# EAGLE library part A-PRO-MINI_FTDI (library digital-toy)
Wattuino Pro Mini with FTDI connector (Arduino Pro Mini Clone)
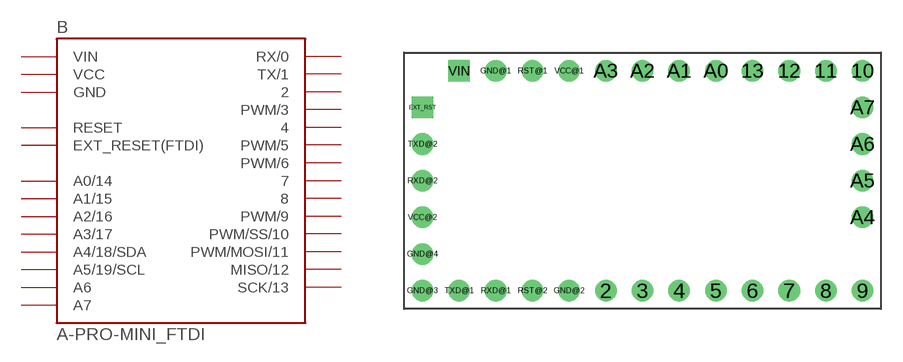
[diagram p48: symbol with the pads of A-PRO-MINI-FTDI_TP; footprint A-PRO-MINI-FTDI_TP]

Designator prefix B

## A-PRO-MINI_FTDI-TP  [A-PRO-MINI-FTDI_TP]
2  2
3  PWM/3
4  4
5  PWM/5
6  PWM/6
7  7
8  8
9  PWM/9
10  PWM/SS/10
11  PWM/MOSI/11
12  MISO/12
13  SCK/13
A0  A0/14
A1  A1/15
A2  A2/16
A3  A3/17
A4  A4/18/SDA
A5  A5/19/SCL
A6  A6
A7  A7
EXT_RST  EXT_RESET(FTDI)
GND@1  GND  pwr
GND@2  GND  pwr
GND@3  GND  pwr
GND@4  GND  pwr
RST@1  RESET
RST@2  RESET
RXD@1  RX/0
RXD@2  RX/0
TXD@1  TX/1
TXD@2  TX/1
VCC@1  VCC  pwr
VCC@2  VCC  pwr
VIN  VIN  pwr

## Footprint A-PRO-MINI-FTDI_TP (pad centres in mm)
21 tPlace
drill 0.9 pad 1.5: 2 -2.54,-7.62; 3 0,-7.62; 4 2.54,-7.62; 5 5.08,-7.62; 6 7.62,-7.62; 7 10.16,-7.62; 8 12.7,-7.62; 9 15.24,-7.62; 10 15.24,7.62; 11 12.7,7.62; 12 10.16,7.62; 13 7.62,7.62; A0 5.08,7.62; A1 2.54,7.62; A2 0,7.62; A3 -2.54,7.62; A4 15.24,-2.54; A5 15.24,0; A6 15.24,2.54; A7 15.24,5.08; GND@1 -10.16,7.62; GND@2 -5.08,-7.62; GND@3 -15.24,-7.62; GND@4 -15.24,-5.08; RST@1 -7.62,7.62; RST@2 -7.62,-7.62; RXD@1 -10.16,-7.62; RXD@2 -15.24,0; TXD@1 -12.7,-7.62; TXD@2 -15.24,2.54; VCC@1 -5.08,7.62; VCC@2 -15.24,-2.54
drill 0.9 pad 1.5 square: EXT_RST -15.24,5.08; VIN -12.7,7.62